# Altium footprint library QUALTEK_703W-00_54.PcbLib: 1 footprints
Each footprint in its own frame and in the unit in brackets; x right, y up, seen from the top. Pads: shape width x height; smd on the part's side, far side on the other; paste and mask are expansions set on the pad; w line width, h text height; cw(c..) or ccw(c..) is an arc to the next point about the centre after c.
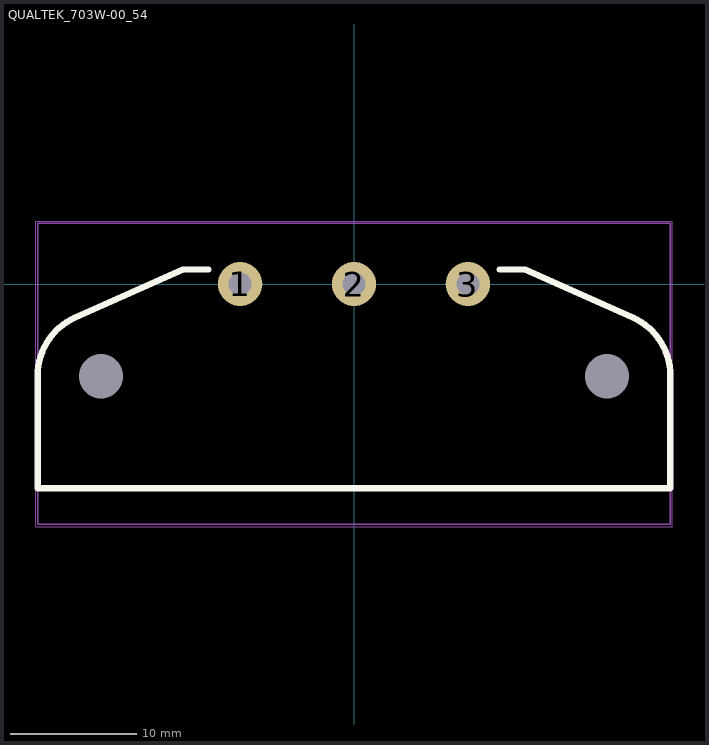
[diagram p0: the footprint, top view; thin cyan lines are the x and y axes]

## QUALTEK_703W-00_54 [mm] "QUALTEK_703W-00_54"
height 28.7
pads (5):
  round 3.5 hole 1.8 mask+0.05: 1(-9,0) 2(0,0) 3(9,0)
  round 0 hole 3.5 unplated mask+0.05: ""(-20,-7.3) ""(20,-7.3)
Top Overlay:
  lines w0.5: -11.5,1.143 -13.52,1.143 -22.034,-2.647 ccw(c-20,-7.215) -25,-7.215 -25,-16.129 25,-16.129 25,-7.215 ccw(c20,-7.215) 22.034,-2.647 13.52,1.143 11.5,1.143
Mechanical 13:
  lines w0.1: -25,-19 -25,4.8 25,4.8 25,-19 -25,-19
Mechanical 15:
  lines w0.05: -25.146,-19.177 25.146,-19.177 25.146,4.953 -25.146,4.953 -25.146,-19.177
  lines w0.1: -0.5,0 0.5,0 ; 0,-0.5 0,0.5
3D body "QUALTEK_703W-00_54.STEP": height 28, standoff -3.72, extent -25.002,-19.016 24.998,4.784